# Altium footprint library con-wago-508.PCBLIB: 18 footprints (part 2 of 2)
Each footprint in its own frame and in the unit in brackets; x right, y up, seen from the top. Pads: shape width x height; smd on the part's side, far side on the other; paste and mask are expansions set on the pad; w line width, h text height; cw(c..) or ccw(c..) is an arc to the next point about the centre after c.
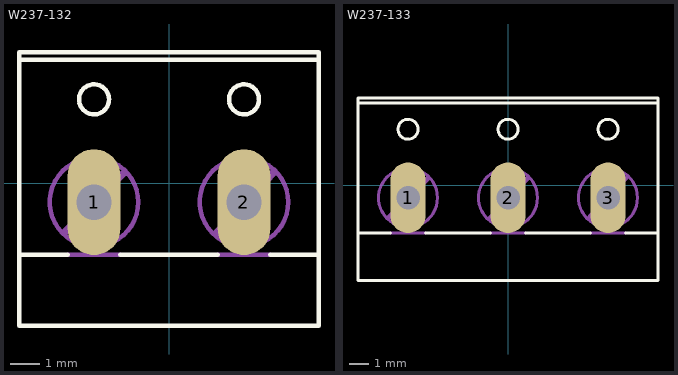
[diagram p1: the footprints below, top view; thin cyan lines are the x and y axes]

## W237-132 [mil]
pads (2):
  oval 70.5x141 hole 47: 1(-100,-25) 2(100,-25)
Top Overlay:
  circle w6: c-100,112 r20
  circle w6: c100,112 r20
  lines w6: -135,-95 -200,-95 ; -65,-95 65,-95 ; 135,-95 200,-95 ; -200,-95 -200,165 ; -200,-95 -200,-190 200,-190 200,-95 ; -200,165 200,165 ; -200,165 -200,175 200,175 200,165 ; 200,-95 200,165
Mechanical 16:
  circle w6: c-100,-25 r59
  circle w6: c100,-25 r59
  lines w6: -135,-95 -65,-95 ; 65,-95 135,-95
  lines w10: -139,-65 -60,14 ; 64,-66 139,14
  text "1" at -175,50 h77.5
  text "2" at 27,48 h77.5

## W237-133 [mil]
pads (3):
  oval 70.5x141 hole 47: 1(-200,-25) 2(0,-25) 3(200,-25)
Top Overlay:
  circle w6: c-200,112 r20
  circle w6: c200,112 r20
  circle w6: c0,112 r20
  lines w6: -235,-95 -300,-95 ; -165,-95 -35,-95 ; 35,-95 165,-95 ; 235,-95 300,-95 ; -300,-95 -300,-190 300,-190 300,-95 ; -300,-95 -300,165 ; -300,165 300,165 ; -300,165 -300,175 300,175 300,165 ; 300,-95 300,165
Mechanical 16:
  circle w6: c-200,-25 r59
  circle w6: c200,-25 r59
  circle w6: c0,-25 r59
  lines w6: -235,-95 -165,-95 ; -35,-95 35,-95 ; 165,-95 235,-95
  lines w10: -239,-65 -160,14 ; -36,-66 39,14 ; 164,-63 235,14
  text "1" at -275,50 h77.5
  text "2" at -73,48 h77.5
  text "3" at 127,50 h77.5